# Altium schematic symbol library Sch_Ethernet.SchLib: 1 symbol
Pins are listed as number, name and electrical type; pins without a type are passive.

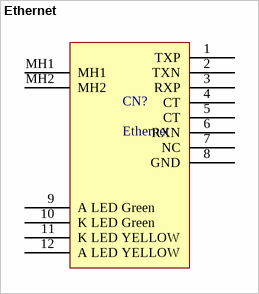
[diagram p0: symbol Ethernet]

## Ethernet
designator CN?
RJ45 8pin Socket
footprint RJ45 (RJ45 - Ethernet)
pins: 1 TXP, 2 TXN, 3 RXP, 4 CT, 5 CT, 6 RXN, 7 NC, 8 GND, 9 A LED Green, 10 K LED Green, 11 K LED YELLOW, 12 A LED YELLOW, MH1, MH2